# Altium integrated library ALTIUM-WE-LF-rev16b.IntLib: 54 symbols
Pins are listed as number, name and electrical type; pins without a type are passive.

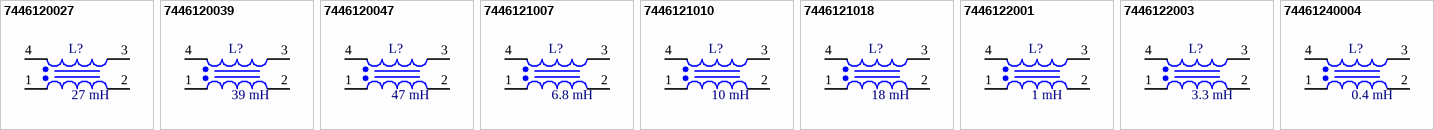
[diagram p0: symbols 7446120027 to 74461240004]

## 7446120027
designator L?, comment 27 mH
WE-LF Common Mode Power Line Choke, Type SV, 27 mH; PartNumber: 7446120027; RatedCurrent: 0.4 A; PublishedDate: Nov. 2016; Publisher: Wurth Elektronik; ComponentLink1Description: Manufacturer; ComponentLink1URL: http://www.we-online.de; ComponentLink2Description: Datasheet; ComponentLink2URL: http://katalog.we-online.de/pbs/datasheet/7446120027.pdf; Size: Type SV; Value: 27 mH
footprint WE-LF_Type SV
pins: 1, 2, 3, 4

## 7446120039
designator L?, comment 39 mH
WE-LF Common Mode Power Line Choke, Type SV, 39 mH; PartNumber: 7446120039; RatedCurrent: 0.4 A; PublishedDate: Nov. 2016; Publisher: Wurth Elektronik; ComponentLink1Description: Manufacturer; ComponentLink1URL: http://www.we-online.de; ComponentLink2Description: Datasheet; ComponentLink2URL: http://katalog.we-online.de/pbs/datasheet/7446120039.pdf; Size: Type SV; Value: 39 mH
footprint WE-LF_Type SV
pins: 1, 2, 3, 4

## 7446120047
designator L?, comment 47 mH
WE-LF Common Mode Power Line Choke, Type SV, 47 mH; PartNumber: 7446120047; RatedCurrent: 0.3 A; PublishedDate: Nov. 2016; Publisher: Wurth Elektronik; ComponentLink1Description: Manufacturer; ComponentLink1URL: http://www.we-online.de; ComponentLink2Description: Datasheet; ComponentLink2URL: http://katalog.we-online.de/pbs/datasheet/7446120047.pdf; Size: Type SV; Value: 47 mH
footprint WE-LF_Type SV
pins: 1, 2, 3, 4

## 7446121007
designator L?, comment 6.8 mH
WE-LF Common Mode Power Line Choke, Type SV, 6.8 mH; PartNumber: 7446121007; RatedCurrent: 1 A; PublishedDate: Nov. 2016; Publisher: Wurth Elektronik; ComponentLink1Description: Manufacturer; ComponentLink1URL: http://www.we-online.de; ComponentLink2Description: Datasheet; ComponentLink2URL: http://katalog.we-online.de/pbs/datasheet/7446121007.pdf; Size: Type SV; Value: 6.8 mH
footprint WE-LF_Type SV
pins: 1, 2, 3, 4

## 7446121010
designator L?, comment 10 mH
WE-LF Common Mode Power Line Choke, Type SV, 10 mH; PartNumber: 7446121010; RatedCurrent: 0.7 A; PublishedDate: Nov. 2016; Publisher: Wurth Elektronik; ComponentLink1Description: Manufacturer; ComponentLink1URL: http://www.we-online.de; ComponentLink2Description: Datasheet; ComponentLink2URL: http://katalog.we-online.de/pbs/datasheet/7446121010.pdf; Size: Type SV; Value: 10 mH
footprint WE-LF_Type SV
pins: 1, 2, 3, 4

## 7446121018
designator L?, comment 18 mH
WE-LF Common Mode Power Line Choke, Type SV, 18 mH; PartNumber: 7446121018; RatedCurrent: 0.5 A; PublishedDate: Nov. 2016; Publisher: Wurth Elektronik; ComponentLink1Description: Manufacturer; ComponentLink1URL: http://www.we-online.de; ComponentLink2Description: Datasheet; ComponentLink2URL: http://katalog.we-online.de/pbs/datasheet/7446121018.pdf; Size: Type SV; Value: 18 mH
footprint WE-LF_Type SV
pins: 1, 2, 3, 4

## 7446122001
designator L?, comment 1 mH
WE-LF Common Mode Power Line Choke, Type SV , 1 mH; PartNumber: 7446122001; RatedCurrent: 2 A; PublishedDate: Nov. 2016; Publisher: Wurth Elektronik; ComponentLink1Description: Manufacturer; ComponentLink1URL: http://www.we-online.de; ComponentLink2Description: Datasheet; ComponentLink2URL: http://katalog.we-online.de/pbs/datasheet/7446122001.pdf; Size: Type SV; Value: 1 mH
footprint WE-LF_Type SV
pins: 1, 2, 3, 4

## 7446122003
designator L?, comment 3.3 mH
WE-LF Common Mode Power Line Choke, Type SV , 3.3 mH; PartNumber: 7446122003; RatedCurrent: 1.5 A; PublishedDate: Nov. 2016; Publisher: Wurth Elektronik; ComponentLink1Description: Manufacturer; ComponentLink1URL: http://www.we-online.de; ComponentLink2Description: Datasheet; ComponentLink2URL: http://katalog.we-online.de/pbs/datasheet/7446122003.pdf; Size: Type SV; Value: 3.3 mH
footprint WE-LF_Type SV
pins: 1, 2, 3, 4

## 74461240004
designator L?, comment 0.4 mH
WE-LF Common Mode Power Line Choke, Type SV , 0.4 mH; PartNumber: 74461240004; RatedCurrent: 3.6 A; PublishedDate: Nov. 2016; Publisher: Wurth Elektronik; ComponentLink1Description: Manufacturer; ComponentLink1URL: http://www.we-online.de; ComponentLink2Description: Datasheet; ComponentLink2URL: http://katalog.we-online.de/pbs/datasheet/74461240004.pdf; Size: Type SV; Value: 0.4 mH
footprint WE-LF_Type SV
pins: 1, 2, 3, 4


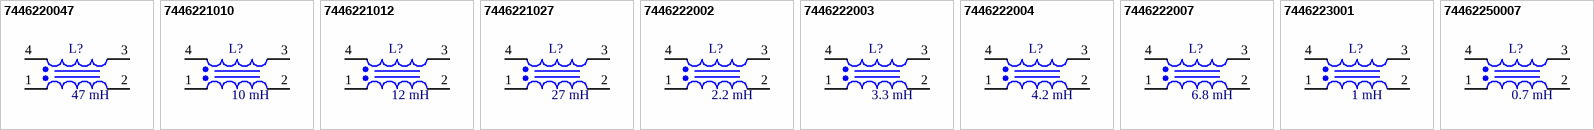
[diagram p1: symbols 7446220047 to 74462250007]

## 7446220047
designator L?, comment 47 mH
WE-LF Common Mode Power Line Choke, Type MV, 47 mH; PartNumber: 7446220047; RatedCurrent: 0.4 A; PublishedDate: Nov. 2016; Publisher: Wurth Elektronik; ComponentLink1Description: Manufacturer; ComponentLink1URL: http://www.we-online.de; ComponentLink2Description: Datasheet; ComponentLink2URL: http://katalog.we-online.de/pbs/datasheet/7446220047.pdf; Size: Type MV; Value: 47 mH
footprint WE-LF_Type MV
pins: 1, 2, 3, 4

## 7446221010
designator L?, comment 10 mH
WE-LF Common Mode Power Line Choke, Type MV, 10 mH; PartNumber: 7446221010; RatedCurrent: 1.3 A; PublishedDate: Nov. 2016; Publisher: Wurth Elektronik; ComponentLink1Description: Manufacturer; ComponentLink1URL: http://www.we-online.de; ComponentLink2Description: Datasheet; ComponentLink2URL: http://katalog.we-online.de/pbs/datasheet/7446221010.pdf; Size: Type MV; Value: 10 mH
footprint WE-LF_Type MV
pins: 1, 2, 3, 4

## 7446221012
designator L?, comment 12 mH
WE-LF Common Mode Power Line Choke, Type MV, 12 mH; PartNumber: 7446221012; RatedCurrent: 1.2 A; PublishedDate: Nov. 2016; Publisher: Wurth Elektronik; ComponentLink1Description: Manufacturer; ComponentLink1URL: http://www.we-online.de; ComponentLink2Description: Datasheet; ComponentLink2URL: http://katalog.we-online.de/pbs/datasheet/7446221012.pdf; Size: Type MV; Value: 12 mH
footprint WE-LF_Type MV
pins: 1, 2, 3, 4

## 7446221027
designator L?, comment 27 mH
WE-LF Common Mode Power Line Choke, Type MV, 27 mH; PartNumber: 7446221027; RatedCurrent: 0.6 A; PublishedDate: Nov. 2016; Publisher: Wurth Elektronik; ComponentLink1Description: Manufacturer; ComponentLink1URL: http://www.we-online.de; ComponentLink2Description: Datasheet; ComponentLink2URL: http://katalog.we-online.de/pbs/datasheet/7446221027.pdf; Size: Type MV; Value: 27 mH
footprint WE-LF_Type MV
pins: 1, 2, 3, 4

## 7446222002
designator L?, comment 2.2 mH
WE-LF Common Mode Power Line Choke, Type MV, 2.2 mH; PartNumber: 7446222002; RatedCurrent: 2 A; PublishedDate: Nov. 2016; Publisher: Wurth Elektronik; ComponentLink1Description: Manufacturer; ComponentLink1URL: http://www.we-online.de; ComponentLink2Description: Datasheet; ComponentLink2URL: http://katalog.we-online.de/pbs/datasheet/7446222002.pdf; Size: Type MV; Value: 2.2 mH
footprint WE-LF_Type MV
pins: 1, 2, 3, 4

## 7446222003
designator L?, comment 3.3 mH
WE-LF Common Mode Power Line Choke, Type MV, 3.3 mH; PartNumber: 7446222003; RatedCurrent: 2 A; PublishedDate: Nov. 2016; Publisher: Wurth Elektronik; ComponentLink1Description: Manufacturer; ComponentLink1URL: http://www.we-online.de; ComponentLink2Description: Datasheet; ComponentLink2URL: http://katalog.we-online.de/pbs/datasheet/7446222003.pdf; Size: Type MV; Value: 3.3 mH
footprint WE-LF_Type MV
pins: 1, 2, 3, 4

## 7446222004
designator L?, comment 4.2 mH
WE-LF Common Mode Power Line Choke, Type MV, 4.2 mH; PartNumber: 7446222004; RatedCurrent: 2 A; PublishedDate: Nov. 2016; Publisher: Wurth Elektronik; ComponentLink1Description: Manufacturer; ComponentLink1URL: http://www.we-online.de; ComponentLink2Description: Datasheet; ComponentLink2URL: http://katalog.we-online.de/pbs/datasheet/7446222004.pdf; Size: Type MV; Value: 4.2 mH
footprint WE-LF_Type MV
pins: 1, 2, 3, 4

## 7446222007
designator L?, comment 6.8 mH
WE-LF Common Mode Power Line Choke, Type MV, 6.8 mH; PartNumber: 7446222007; RatedCurrent: 1.5 A; PublishedDate: Nov. 2016; Publisher: Wurth Elektronik; ComponentLink1Description: Manufacturer; ComponentLink1URL: http://www.we-online.de; ComponentLink2Description: Datasheet; ComponentLink2URL: http://katalog.we-online.de/pbs/datasheet/7446222007.pdf; Size: Type MV; Value: 6.8 mH
footprint WE-LF_Type MV
pins: 1, 2, 3, 4

## 7446223001
designator L?, comment 1 mH
WE-LF Common Mode Power Line Choke, Type MV, 1 mH; PartNumber: 7446223001; RatedCurrent: 3 A; PublishedDate: Nov. 2016; Publisher: Wurth Elektronik; ComponentLink1Description: Manufacturer; ComponentLink1URL: http://www.we-online.de; ComponentLink2Description: Datasheet; ComponentLink2URL: http://katalog.we-online.de/pbs/datasheet/7446223001.pdf; Size: Type MV; Value: 1 mH
footprint WE-LF_Type MV
pins: 1, 2, 3, 4

## 74462250007
designator L?, comment 0.7 mH
WE-LF Common Mode Power Line Choke, Type MV, 0.7 mH; PartNumber: 74462250007; RatedCurrent: 4.7 A; PublishedDate: Nov. 2016; Publisher: Wurth Elektronik; ComponentLink1Description: Manufacturer; ComponentLink1URL: http://www.we-online.de; ComponentLink2Description: Datasheet; ComponentLink2URL: http://katalog.we-online.de/pbs/datasheet/74462250007.pdf; Size: Type MV; Value: 0.7 mH
footprint WE-LF_Type MV
pins: 1, 2, 3, 4


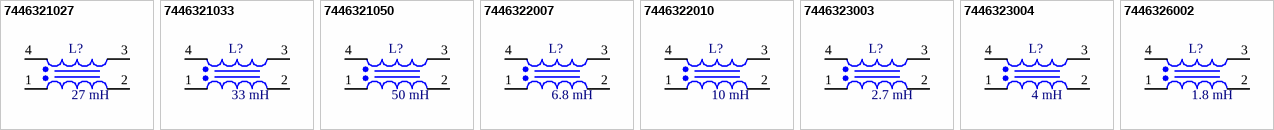
[diagram p2: symbols 7446321027 to 7446326002]

## 7446321027
designator L?, comment 27 mH
WE-LF Common Mode Power Line Choke, Type LV, 27 mH; PartNumber: 7446321027; RatedCurrent: 1 A; PublishedDate: Nov. 2016; Publisher: Wurth Elektronik; ComponentLink1Description: Manufacturer; ComponentLink1URL: http://www.we-online.de; ComponentLink2Description: Datasheet; ComponentLink2URL: http://katalog.we-online.de/pbs/datasheet/7446321027.pdf; Size: Type LV; Value: 27 mH
footprint WE-LF_Type LV
pins: 1, 2, 3, 4

## 7446321033
designator L?, comment 33 mH
WE-LF Common Mode Power Line Choke, Type LV, 33 mH; PartNumber: 7446321033; RatedCurrent: 0.8 A; PublishedDate: Nov. 2016; Publisher: Wurth Elektronik; ComponentLink1Description: Manufacturer; ComponentLink1URL: http://www.we-online.de; ComponentLink2Description: Datasheet; ComponentLink2URL: http://katalog.we-online.de/pbs/datasheet/7446321033.pdf; Size: Type LV; Value: 33 mH
footprint WE-LF_Type LV
pins: 1, 2, 3, 4

## 7446321050
designator L?, comment 50 mH
WE-LF Common Mode Power Line Choke, Type LV, 50 mH; PartNumber: 7446321050; RatedCurrent: 0.6 A; PublishedDate: Nov. 2016; Publisher: Wurth Elektronik; ComponentLink1Description: Manufacturer; ComponentLink1URL: http://www.we-online.de; ComponentLink2Description: Datasheet; ComponentLink2URL: http://katalog.we-online.de/pbs/datasheet/7446321050.pdf; Size: Type LV; Value: 50 mH
footprint WE-LF_Type LV
pins: 1, 2, 3, 4

## 7446322007
designator L?, comment 6.8 mH
WE-LF Common Mode Power Line Choke, Type LV, 6.8 mH; PartNumber: 7446322007; RatedCurrent: 1.9 A; PublishedDate: Nov. 2016; Publisher: Wurth Elektronik; ComponentLink1Description: Manufacturer; ComponentLink1URL: http://www.we-online.de; ComponentLink2Description: Datasheet; ComponentLink2URL: http://katalog.we-online.de/pbs/datasheet/7446322007.pdf; Size: Type LV; Value: 6.8 mH
footprint WE-LF_Type LV
pins: 1, 2, 3, 4

## 7446322010
designator L?, comment 10 mH
WE-LF Common Mode Power Line Choke, Type LV, 10 mH; PartNumber: 7446322010; RatedCurrent: 1.9 A; PublishedDate: Nov. 2016; Publisher: Wurth Elektronik; ComponentLink1Description: Manufacturer; ComponentLink1URL: http://www.we-online.de; ComponentLink2Description: Datasheet; ComponentLink2URL: http://katalog.we-online.de/pbs/datasheet/7446322010.pdf; Size: Type LV; Value: 10 mH
footprint WE-LF_Type LV
pins: 1, 2, 3, 4

## 7446323003
designator L?, comment 2.7 mH
WE-LF Common Mode Power Line Choke, Type LV, 2.7 mH; PartNumber: 7446323003; RatedCurrent: 3 A; PublishedDate: Nov. 2016; Publisher: Wurth Elektronik; ComponentLink1Description: Manufacturer; ComponentLink1URL: http://www.we-online.de; ComponentLink2Description: Datasheet; ComponentLink2URL: http://katalog.we-online.de/pbs/datasheet/7446323003.pdf; Size: Type LV; Value: 2.7 mH
footprint WE-LF_Type LV
pins: 1, 2, 3, 4

## 7446323004
designator L?, comment 4 mH
WE-LF Common Mode Power Line Choke, Type LV, 4 mH; PartNumber: 7446323004; RatedCurrent: 3 A; PublishedDate: Nov. 2016; Publisher: Wurth Elektronik; ComponentLink1Description: Manufacturer; ComponentLink1URL: http://www.we-online.de; ComponentLink2Description: Datasheet; ComponentLink2URL: http://katalog.we-online.de/pbs/datasheet/7446323004.pdf; Size: Type LV; Value: 4 mH
footprint WE-LF_Type LV
pins: 1, 2, 3, 4

## 7446326002
designator L?, comment 1.8 mH
WE-LF Common Mode Power Line Choke, Type LV, 1.8 mH; PartNumber: 7446326002; RatedCurrent: 6 A; PublishedDate: Nov. 2016; Publisher: Wurth Elektronik; ComponentLink1Description: Manufacturer; ComponentLink1URL: http://www.we-online.de; ComponentLink2Description: Datasheet; ComponentLink2URL: http://katalog.we-online.de/pbs/datasheet/7446326002.pdf; Size: Type LV; Value: 1.8 mH
footprint WE-LF_Type LV
pins: 1, 2, 3, 4


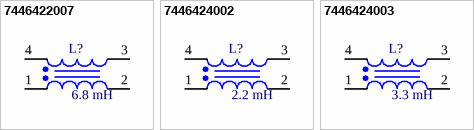
[diagram p3: symbols 7446422007 to 7446424003]

## 7446422007
designator L?, comment 6.8 mH
WE-LF Common Mode Power Line Choke, Type XV, 6.8 mH; PartNumber: 7446422007; RatedCurrent: 2.5 A; PublishedDate: Nov. 2016; Publisher: Wurth Elektronik; ComponentLink1Description: Manufacturer; ComponentLink1URL: http://www.we-online.de; ComponentLink2Description: Datasheet; ComponentLink2URL: http://katalog.we-online.de/pbs/datasheet/7446422007.pdf; Size: Type XV; Value: 6.8 mH
footprint WE-LF_Type XV
pins: 1, 2, 3, 4

## 7446424002
designator L?, comment 2.2 mH
WE-LF Common Mode Power Line Choke, Type XV, 2.2 mH; PartNumber: 7446424002; RatedCurrent: 4.3 A; PublishedDate: Nov. 2016; Publisher: Wurth Elektronik; ComponentLink1Description: Manufacturer; ComponentLink1URL: http://www.we-online.de; ComponentLink2Description: Datasheet; ComponentLink2URL: http://katalog.we-online.de/pbs/datasheet/7446424002.pdf; Size: Type XV; Value: 2.2 mH
footprint WE-LF_Type XV
pins: 1, 2, 3, 4

## 7446424003
designator L?, comment 3.3 mH
WE-LF Common Mode Power Line Choke, Type XV, 3.3 mH; PartNumber: 7446424003; RatedCurrent: 4 A; PublishedDate: Nov. 2016; Publisher: Wurth Elektronik; ComponentLink1Description: Manufacturer; ComponentLink1URL: http://www.we-online.de; ComponentLink2Description: Datasheet; ComponentLink2URL: http://katalog.we-online.de/pbs/datasheet/7446424003.pdf; Size: Type XV; Value: 3.3 mH
footprint WE-LF_Type XV
pins: 1, 2, 3, 4


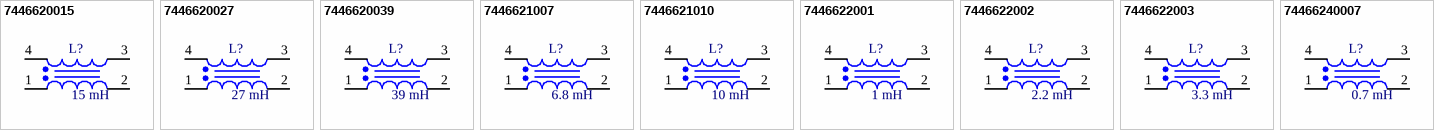
[diagram p4: symbols 7446620015 to 74466240007]

## 7446620015
designator L?, comment 15 mH
WE-LF Common Mode Power Line Choke, Type SH, 15 mH; PartNumber: 7446620015; RatedCurrent: 0.5 A; PublishedDate: Nov. 2016; Publisher: Wurth Elektronik; ComponentLink1Description: Manufacturer; ComponentLink1URL: http://www.we-online.de; ComponentLink2Description: Datasheet; ComponentLink2URL: http://katalog.we-online.de/pbs/datasheet/7446620015.pdf; Size: Type SH; Value: 15 mH
footprint WE-LF_Type SH
pins: 1, 2, 3, 4

## 7446620027
designator L?, comment 27 mH
WE-LF Common Mode Power Line Choke, Type SH, 27 mH; PartNumber: 7446620027; RatedCurrent: 0.4 A; PublishedDate: Nov. 2016; Publisher: Wurth Elektronik; ComponentLink1Description: Manufacturer; ComponentLink1URL: http://www.we-online.de; ComponentLink2Description: Datasheet; ComponentLink2URL: http://katalog.we-online.de/pbs/datasheet/7446620027.pdf; Size: Type SH; Value: 27 mH
footprint WE-LF_Type SH
pins: 1, 2, 3, 4

## 7446620039
designator L?, comment 39 mH
WE-LF Common Mode Power Line Choke, Type SH, 39 mH; PartNumber: 7446620039; RatedCurrent: 0.4 A; PublishedDate: Nov. 2016; Publisher: Wurth Elektronik; ComponentLink1Description: Manufacturer; ComponentLink1URL: http://www.we-online.de; ComponentLink2Description: Datasheet; ComponentLink2URL: http://katalog.we-online.de/pbs/datasheet/7446620039.pdf; Size: Type SH; Value: 39 mH
footprint WE-LF_Type SH
pins: 1, 2, 3, 4

## 7446621007
designator L?, comment 6.8 mH
WE-LF Common Mode Power Line Choke, Type SH, 6.8 mH; PartNumber: 7446621007; RatedCurrent: 1 A; PublishedDate: Nov. 2016; Publisher: Wurth Elektronik; ComponentLink1Description: Manufacturer; ComponentLink1URL: http://www.we-online.de; ComponentLink2Description: Datasheet; ComponentLink2URL: http://katalog.we-online.de/pbs/datasheet/7446621007.pdf; Size: Type SH; Value: 6.8 mH
footprint WE-LF_Type SH
pins: 1, 2, 3, 4

## 7446621010
designator L?, comment 10 mH
WE-LF Common Mode Power Line Choke, Type SH, 10 mH; PartNumber: 7446621010; RatedCurrent: 0.7 A; PublishedDate: Nov. 2016; Publisher: Wurth Elektronik; ComponentLink1Description: Manufacturer; ComponentLink1URL: http://www.we-online.de; ComponentLink2Description: Datasheet; ComponentLink2URL: http://katalog.we-online.de/pbs/datasheet/7446621010.pdf; Size: Type SH; Value: 10 mH
footprint WE-LF_Type SH
pins: 1, 2, 3, 4

## 7446622001
designator L?, comment 1 mH
WE-LF Common Mode Power Line Choke, Type SH, 1 mH; PartNumber: 7446622001; RatedCurrent: 2 A; PublishedDate: Nov. 2016; Publisher: Wurth Elektronik; ComponentLink1Description: Manufacturer; ComponentLink1URL: http://www.we-online.de; ComponentLink2Description: Datasheet; ComponentLink2URL: http://katalog.we-online.de/pbs/datasheet/7446622001.pdf; Size: Type SH; Value: 1 mH
footprint WE-LF_Type SH
pins: 1, 2, 3, 4

## 7446622002
designator L?, comment 2.2 mH
WE-LF Common Mode Power Line Choke, Type SH, 2.2 mH; PartNumber: 7446622002; RatedCurrent: 2 A; PublishedDate: Nov. 2016; Publisher: Wurth Elektronik; ComponentLink1Description: Manufacturer; ComponentLink1URL: http://www.we-online.de; ComponentLink2Description: Datasheet; ComponentLink2URL: http://katalog.we-online.de/pbs/datasheet/7446622002.pdf; Size: Type SH; Value: 2.2 mH
footprint WE-LF_Type SH
pins: 1, 2, 3, 4

## 7446622003
designator L?, comment 3.3 mH
WE-LF Common Mode Power Line Choke, Type SH, 3.3 mH; PartNumber: 7446622003; RatedCurrent: 1.5 A; PublishedDate: Nov. 2016; Publisher: Wurth Elektronik; ComponentLink1Description: Manufacturer; ComponentLink1URL: http://www.we-online.de; ComponentLink2Description: Datasheet; ComponentLink2URL: http://katalog.we-online.de/pbs/datasheet/7446622003.pdf; Size: Type SH; Value: 3.3 mH
footprint WE-LF_Type SH
pins: 1, 2, 3, 4

## 74466240007
designator L?, comment 0.7 mH
WE-LF Common Mode Power Line Choke, Type SH, 0.7 mH; PartNumber: 74466240007; RatedCurrent: 4 A; PublishedDate: Nov. 2016; Publisher: Wurth Elektronik; ComponentLink1Description: Manufacturer; ComponentLink1URL: http://www.we-online.de; ComponentLink2Description: Datasheet; ComponentLink2URL: http://katalog.we-online.de/pbs/datasheet/74466240007.pdf; Size: Type SH; Value: 0.7 mH
footprint WE-LF_Type SH
pins: 1, 2, 3, 4


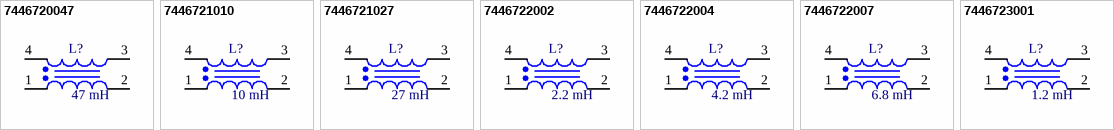
[diagram p5: symbols 7446720047 to 7446723001]

## 7446720047
designator L?, comment 47 mH
WE-LF Common Mode Power Line Choke, Type MH, 47 mH; PartNumber: 7446720047; RatedCurrent: 0.4 A; PublishedDate: Nov. 2016; Publisher: Wurth Elektronik; ComponentLink1Description: Manufacturer; ComponentLink1URL: http://www.we-online.de; ComponentLink2Description: Datasheet; ComponentLink2URL: http://katalog.we-online.de/pbs/datasheet/7446720047.pdf; Size: Type MH; Value: 47 mH
footprint WE-LF_Type MH
pins: 1, 2, 3, 4

## 7446721010
designator L?, comment 10 mH
WE-LF Common Mode Power Line Choke, Type MH, 10 mH; PartNumber: 7446721010; RatedCurrent: 1.3 A; PublishedDate: Nov. 2016; Publisher: Wurth Elektronik; ComponentLink1Description: Manufacturer; ComponentLink1URL: http://www.we-online.de; ComponentLink2Description: Datasheet; ComponentLink2URL: http://katalog.we-online.de/pbs/datasheet/7446721010.pdf; Size: Type MH; Value: 10 mH
footprint WE-LF_Type MH
pins: 1, 2, 3, 4

## 7446721027
designator L?, comment 27 mH
WE-LF Common Mode Power Line Choke, Type MH, 27 mH; PartNumber: 7446721027; RatedCurrent: 0.6 A; PublishedDate: Nov. 2016; Publisher: Wurth Elektronik; ComponentLink1Description: Manufacturer; ComponentLink1URL: http://www.we-online.de; ComponentLink2Description: Datasheet; ComponentLink2URL: http://katalog.we-online.de/pbs/datasheet/7446721027.pdf; Size: Type MH; Value: 27 mH
footprint WE-LF_Type MH
pins: 1, 2, 3, 4

## 7446722002
designator L?, comment 2.2 mH
WE-LF Common Mode Power Line Choke, Type MH, 2.2 mH; PartNumber: 7446722002; RatedCurrent: 2 A; PublishedDate: Nov. 2016; Publisher: Wurth Elektronik; ComponentLink1Description: Manufacturer; ComponentLink1URL: http://www.we-online.de; ComponentLink2Description: Datasheet; ComponentLink2URL: http://katalog.we-online.de/pbs/datasheet/7446722002.pdf; Size: Type MH; Value: 2.2 mH
footprint WE-LF_Type MH
pins: 1, 2, 3, 4

## 7446722004
designator L?, comment 4.2 mH
WE-LF Common Mode Power Line Choke, Type MH, 4.2 mH; PartNumber: 7446722004; RatedCurrent: 1.9 A; PublishedDate: Nov. 2016; Publisher: Wurth Elektronik; ComponentLink1Description: Manufacturer; ComponentLink1URL: http://www.we-online.de; ComponentLink2Description: Datasheet; ComponentLink2URL: http://katalog.we-online.de/pbs/datasheet/7446722004.pdf; Size: Type MH; Value: 4.2 mH
footprint WE-LF_Type MH
pins: 1, 2, 3, 4

## 7446722007
designator L?, comment 6.8 mH
WE-LF Common Mode Power Line Choke, Type MH, 6.8 mH; PartNumber: 7446722007; RatedCurrent: 1.5 A; PublishedDate: Nov. 2016; Publisher: Wurth Elektronik; ComponentLink1Description: Manufacturer; ComponentLink1URL: http://www.we-online.de; ComponentLink2Description: Datasheet; ComponentLink2URL: http://katalog.we-online.de/pbs/datasheet/7446722007.pdf; Size: Type MH; Value: 6.8 mH
footprint WE-LF_Type MH
pins: 1, 2, 3, 4

## 7446723001
designator L?, comment 1.2 mH
WE-LF Common Mode Power Line Choke, Type MH, 1.2 mH; PartNumber: 7446723001; RatedCurrent: 3 A; PublishedDate: Nov. 2016; Publisher: Wurth Elektronik; ComponentLink1Description: Manufacturer; ComponentLink1URL: http://www.we-online.de; ComponentLink2Description: Datasheet; ComponentLink2URL: http://katalog.we-online.de/pbs/datasheet/7446723001.pdf; Size: Type MH; Value: 1.2 mH
footprint WE-LF_Type MH
pins: 1, 2, 3, 4


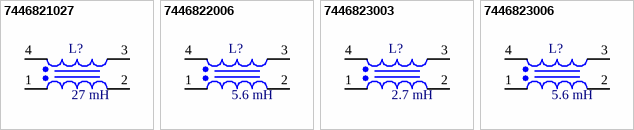
[diagram p6: symbols 7446821027 to 7446823006]

## 7446821027
designator L?, comment 27 mH
WE-LF Common Mode Power Line Choke, Type LH, 27 mH; PartNumber: 7446821027; RatedCurrent: 1 A; PublishedDate: Nov. 2016; Publisher: Wurth Elektronik; ComponentLink1Description: Manufacturer; ComponentLink1URL: http://www.we-online.de; ComponentLink2Description: Datasheet; ComponentLink2URL: http://katalog.we-online.de/pbs/datasheet/7446821027.pdf; Size: Type LH; Value: 27 mH
footprint WE-LF_Type LH
pins: 1, 2, 3, 4

## 7446822006
designator L?, comment 5.6 mH
WE-LF Common Mode Power Line Choke, Type LH, 5.6 mH; PartNumber: 7446822006; RatedCurrent: 2 A; PublishedDate: Nov. 2016; Publisher: Wurth Elektronik; ComponentLink1Description: Manufacturer; ComponentLink1URL: http://www.we-online.de; ComponentLink2Description: Datasheet; ComponentLink2URL: http://katalog.we-online.de/pbs/datasheet/7446822006.pdf; Size: Type LH; Value: 5.6 mH
footprint WE-LF_Type LH
pins: 1, 2, 3, 4

## 7446823003
designator L?, comment 2.7 mH
WE-LF Common Mode Power Line Choke, Type LH, 2.7 mH; PartNumber: 7446823003; RatedCurrent: 3 A; PublishedDate: Nov. 2016; Publisher: Wurth Elektronik; ComponentLink1Description: Manufacturer; ComponentLink1URL: http://www.we-online.de; ComponentLink2Description: Datasheet; ComponentLink2URL: http://katalog.we-online.de/pbs/datasheet/7446823003.pdf; Size: Type LH; Value: 2.7 mH
footprint WE-LF_Type LH
pins: 1, 2, 3, 4

## 7446823006
designator L?, comment 5.6 mH
WE-LF Common Mode Power Line Choke, Type LH, 5.6 mH; PartNumber: 7446823006; RatedCurrent: 2.4 A; PublishedDate: Nov. 2016; Publisher: Wurth Elektronik; ComponentLink1Description: Manufacturer; ComponentLink1URL: http://www.we-online.de; ComponentLink2Description: Datasheet; ComponentLink2URL: http://katalog.we-online.de/pbs/datasheet/7446823006.pdf; Size: Type LH; Value: 5.6 mH
footprint WE-LF_Type LH
pins: 1, 2, 3, 4


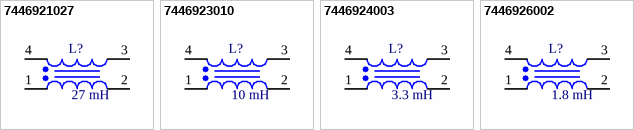
[diagram p7: symbols 7446921027 to 7446926002]

## 7446921027
designator L?, comment 27 mH
WE-LF Common Mode Power Line Choke, Type XH, 27 mH; PartNumber: 7446921027; RatedCurrent: 1.2 A; PublishedDate: Nov. 2016; Publisher: Wurth Elektronik; ComponentLink1Description: Manufacturer; ComponentLink1URL: http://www.we-online.de; ComponentLink2Description: Datasheet; ComponentLink2URL: http://katalog.we-online.de/pbs/datasheet/7446921027.pdf; Size: Type XH; Value: 27 mH
footprint WE-LF_Type XH
pins: 1, 2, 3, 4

## 7446923010
designator L?, comment 10 mH
WE-LF Common Mode Power Line Choke, Type XH, 10 mH; PartNumber: 7446923010; RatedCurrent: 3 A; PublishedDate: Nov. 2016; Publisher: Wurth Elektronik; ComponentLink1Description: Manufacturer; ComponentLink1URL: http://www.we-online.de; ComponentLink2Description: Datasheet; ComponentLink2URL: http://katalog.we-online.de/pbs/datasheet/7446923010.pdf; Size: Type XH; Value: 10 mH
footprint WE-LF_Type XH
pins: 1, 2, 3, 4

## 7446924003
designator L?, comment 3.3 mH
WE-LF Common Mode Power Line Choke, Type XH, 3.3 mH; PartNumber: 7446924003; RatedCurrent: 4 A; PublishedDate: Nov. 2016; Publisher: Wurth Elektronik; ComponentLink1Description: Manufacturer; ComponentLink1URL: http://www.we-online.de; ComponentLink2Description: Datasheet; ComponentLink2URL: http://katalog.we-online.de/pbs/datasheet/7446924003.pdf; Size: Type XH; Value: 3.3 mH
footprint WE-LF_Type XH
pins: 1, 2, 3, 4

## 7446926002
designator L?, comment 1.8 mH
WE-LF Common Mode Power Line Choke, Type XH, 1.8 mH; PartNumber: 7446926002; RatedCurrent: 6 A; PublishedDate: Nov. 2016; Publisher: Wurth Elektronik; ComponentLink1Description: Manufacturer; ComponentLink1URL: http://www.we-online.de; ComponentLink2Description: Datasheet; ComponentLink2URL: http://katalog.we-online.de/pbs/datasheet/7446926002.pdf; Size: Type XH; Value: 1.8 mH
footprint WE-LF_Type XH
pins: 1, 2, 3, 4